# Altium footprint library OS ARM.PcbLib: 2 footprints
Each footprint in its own frame and in the unit in brackets; x right, y up, seen from the top. Pads: shape width x height; smd on the part's side, far side on the other; paste and mask are expansions set on the pad; w line width, h text height; cw(c..) or ccw(c..) is an arc to the next point about the centre after c.
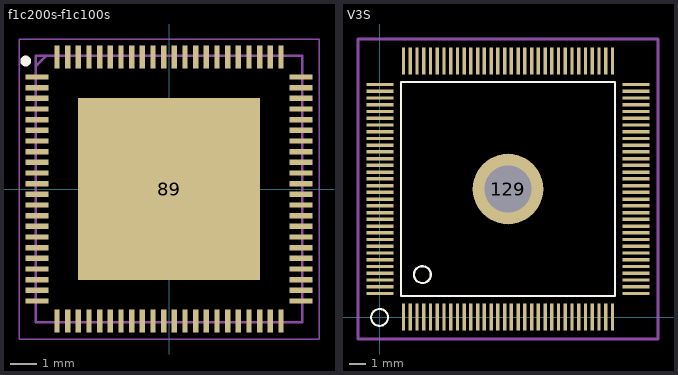
[diagram p0: the footprints below, top view; thin cyan lines are the x and y axes]

## f1c200s-f1c100s [mm]
pads (89):
  rect 0.85x0.2 smd: 1(-4.95,4.2) 2(-4.95,3.8) 3(-4.95,3.4) 4(-4.95,3) 5(-4.95,2.6) 6(-4.95,2.2) 7(-4.95,1.8) 8(-4.95,1.4) 9(-4.95,1) 10(-4.95,0.6) 11(-4.95,0.2) 12(-4.95,-0.2) 13(-4.95,-0.6) 14(-4.95,-1) 15(-4.95,-1.4) 16(-4.95,-1.8) 17(-4.95,-2.2) 18(-4.95,-2.6) 19(-4.95,-3) 20(-4.95,-3.4) 21(-4.95,-3.8) 22(-4.95,-4.2) 45(4.95,-4.2) 46(4.95,-3.8) 47(4.95,-3.4) 48(4.95,-3) 49(4.95,-2.6) 50(4.95,-2.2) 51(4.95,-1.8) 52(4.95,-1.4) 53(4.95,-1) 54(4.95,-0.6) 55(4.95,-0.2) 56(4.95,0.2) 57(4.95,0.6) 58(4.95,1) 59(4.95,1.4) 60(4.95,1.8) 61(4.95,2.2) 62(4.95,2.6) 63(4.95,3) 64(4.95,3.4) 65(4.95,3.8) 66(4.95,4.2)
  rect 0.2x0.85 smd: 23(-4.2,-4.95) 24(-3.8,-4.95) 25(-3.4,-4.95) 26(-3,-4.95) 27(-2.6,-4.95) 28(-2.2,-4.95) 29(-1.8,-4.95) 30(-1.4,-4.95) 31(-1,-4.95) 32(-0.6,-4.95) 33(-0.2,-4.95) 34(0.2,-4.95) 35(0.6,-4.95) 36(1,-4.95) 37(1.4,-4.95) 38(1.8,-4.95) 39(2.2,-4.95) 40(2.6,-4.95) 41(3,-4.95) 42(3.4,-4.95) 43(3.8,-4.95) 44(4.2,-4.95) 67(4.2,4.95) 68(3.8,4.95) 69(3.4,4.95) 70(3,4.95) 71(2.6,4.95) 72(2.2,4.95) 73(1.8,4.95) 74(1.4,4.95) 75(1,4.95) 76(0.6,4.95) 77(0.2,4.95) 78(-0.2,4.95) 79(-0.6,4.95) 80(-1,4.95) 81(-1.4,4.95) 82(-1.8,4.95) 83(-2.2,4.95) 84(-2.6,4.95) 85(-3,4.95) 86(-3.4,4.95) 87(-3.8,4.95) 88(-4.2,4.95)
  rect 6.84x6.84 smd: 89(0,0)
Top Overlay:
  circle w0.2: c-5.375,4.8 r0.1
Mechanical 8:
  lines w0.05: -5.625,-5.625 -5.625,5.625 5.625,5.625 5.625,-5.625 -5.625,-5.625
  lines w0.1: -5,4.6 -4.6,5 ; -5,-5 -5,5 5,5 5,-5 -5,-5
3D body: height 0.5, standoff -0.03, extent -4.445,-4.445 4.445,4.445

## V3S [mm]
pads (129):
  rect 0.2x1.6 smd: 1(1.42,0.02) 2(1.82,0.02) 3(2.22,0.02) 4(2.62,0.02) 5(3.02,0.02) 6(3.42,0.02) 7(3.82,0.02) 8(4.22,0.02) 9(4.62,0.02) 10(5.02,0.02) 11(5.42,0.02) 12(5.82,0.02) 13(6.22,0.02) 14(6.62,0.02) 15(7.02,0.02) 16(7.42,0.02) 17(7.82,0.02) 18(8.22,0.02) 19(8.62,0.02) 20(9.02,0.02) 21(9.42,0.02) 22(9.82,0.02) 23(10.22,0.02) 24(10.62,0.02) 25(11.02,0.02) 26(11.42,0.02) 27(11.82,0.02) 28(12.22,0.02) 29(12.62,0.02) 30(13.02,0.02) 31(13.42,0.02) 32(13.82,0.02) 65(13.82,15.22) 66(13.42,15.22) 67(13.02,15.22) 68(12.62,15.22) 69(12.22,15.22) 70(11.82,15.22) 71(11.42,15.22) 72(11.02,15.22) 73(10.62,15.22) 74(10.22,15.22) 75(9.82,15.22) 76(9.42,15.22) 77(9.02,15.22) 78(8.62,15.22) 79(8.22,15.22) 80(7.82,15.22) 81(7.42,15.22) 82(7.02,15.22) 83(6.62,15.22) 84(6.22,15.22) 85(5.82,15.22) 86(5.42,15.22) 87(5.02,15.22) 88(4.62,15.22) 89(4.22,15.22) 90(3.82,15.22) 91(3.42,15.22) 92(3.02,15.22) 93(2.62,15.22) 94(2.22,15.22) 95(1.82,15.22) 96(1.42,15.22)
  rect 1.6x0.2 smd: 33(15.22,1.42) 34(15.22,1.82) 35(15.22,2.22) 36(15.22,2.62) 37(15.22,3.02) 38(15.22,3.42) 39(15.22,3.82) 40(15.22,4.22) 41(15.22,4.62) 42(15.22,5.02) 43(15.22,5.42) 44(15.22,5.82) 45(15.22,6.22) 46(15.22,6.62) 47(15.22,7.02) 48(15.22,7.42) 49(15.22,7.82) 50(15.22,8.22) 51(15.22,8.62) 52(15.22,9.02) 53(15.22,9.42) 54(15.22,9.82) 55(15.22,10.22) 56(15.22,10.62) 57(15.22,11.02) 58(15.22,11.42) 59(15.22,11.82) 60(15.22,12.22) 61(15.22,12.62) 62(15.22,13.02) 63(15.22,13.42) 64(15.22,13.82) 97(0.02,13.82) 98(0.02,13.42) 99(0.02,13.02) 100(0.02,12.62) 101(0.02,12.22) 102(0.02,11.82) 103(0.02,11.42) 104(0.02,11.02) 105(0.02,10.62) 106(0.02,10.22) 107(0.02,9.82) 108(0.02,9.42) 109(0.02,9.02) 110(0.02,8.62) 111(0.02,8.22) 112(0.02,7.82) 113(0.02,7.42) 114(0.02,7.02) 115(0.02,6.62) 116(0.02,6.22) 117(0.02,5.82) 118(0.02,5.42) 119(0.02,5.02) 120(0.02,4.62) 121(0.02,4.22) 122(0.02,3.82) 123(0.02,3.42) 124(0.02,3.02) 125(0.02,2.62) 126(0.02,2.22) 127(0.02,1.82) 128(0.02,1.42)
  round 4.2 hole 2.8: 129(7.62,7.62)
Top Overlay:
  circle w0.127: c0,0 r0.5
  circle w0.127: c2.54,2.54 r0.5
  lines w0.127: 1.27,1.27 13.97,1.27 13.97,13.97 1.27,13.97 1.27,1.27
Mechanical 27:
  lines w0.2: -1.28,-1.28 -1.28,16.52 16.52,16.52 16.52,-1.28 -1.28,-1.28
3D body: height 0.5, standoff -0.03, extent 0.889,1.016 14.351,14.351